# EAGLE library part 7400 (library be_logic)
edited: Mario Blunk / Blunk electronic
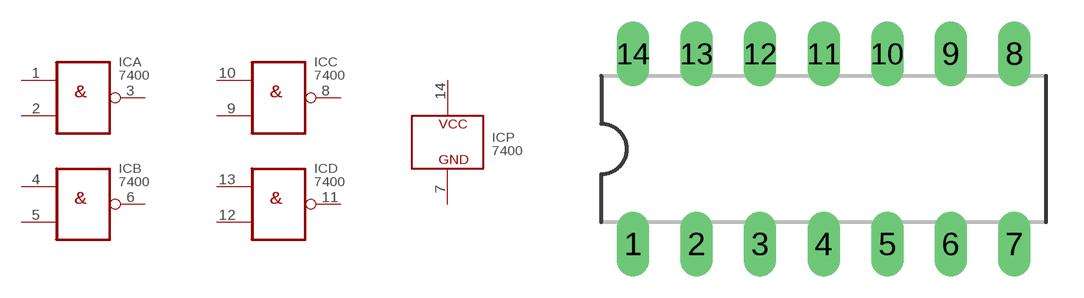
[diagram p4: symbol with the pads of T_NDIP14; footprint T_NDIP14]

Designator prefix IC; gates A=NAND B=NAND C=NAND D=NAND P=PWR

## 7400N (BOM: YES; COMMISSIONED: 2015-10-14; PART_CODE_BEL: IC_PAC_T_NDIP14_VAL_SN74x00N)  [T_NDIP14]
1  A:I0  in
2  A:I1  in
3  A:O  out
4  B:I0  in
5  B:I1  in
6  B:O  out
7  P:GND  pwr
8  C:O  out
9  C:I1  in
10  C:I0  in
11  D:O  out
12  D:I1  in
13  D:I0  in
14  P:VCC  pwr

## Footprint T_NDIP14 (pad centres in mm)
edited: Mario Blunk / Blunk electronic date: 2013-05-06
drill 0.8 long: 1 -7.62,-3.81; 2 -5.08,-3.81; 3 -2.54,-3.81; 4 0,-3.81; 5 2.54,-3.81; 6 5.08,-3.81; 7 7.62,-3.81; 8 7.62,3.81; 9 5.08,3.81; 10 2.54,3.81; 11 0,3.81; 12 -2.54,3.81; 13 -5.08,3.81; 14 -7.62,3.81